# Altium footprint library Resistors.PcbLib: 65 footprints (part 2 of 5)
Each footprint in its own frame and in the unit in brackets; x right, y up, seen from the top. Pads: shape width x height; smd on the part's side, far side on the other; paste and mask are expansions set on the pad; w line width, h text height; cw(c..) or ccw(c..) is an arc to the next point about the centre after c.
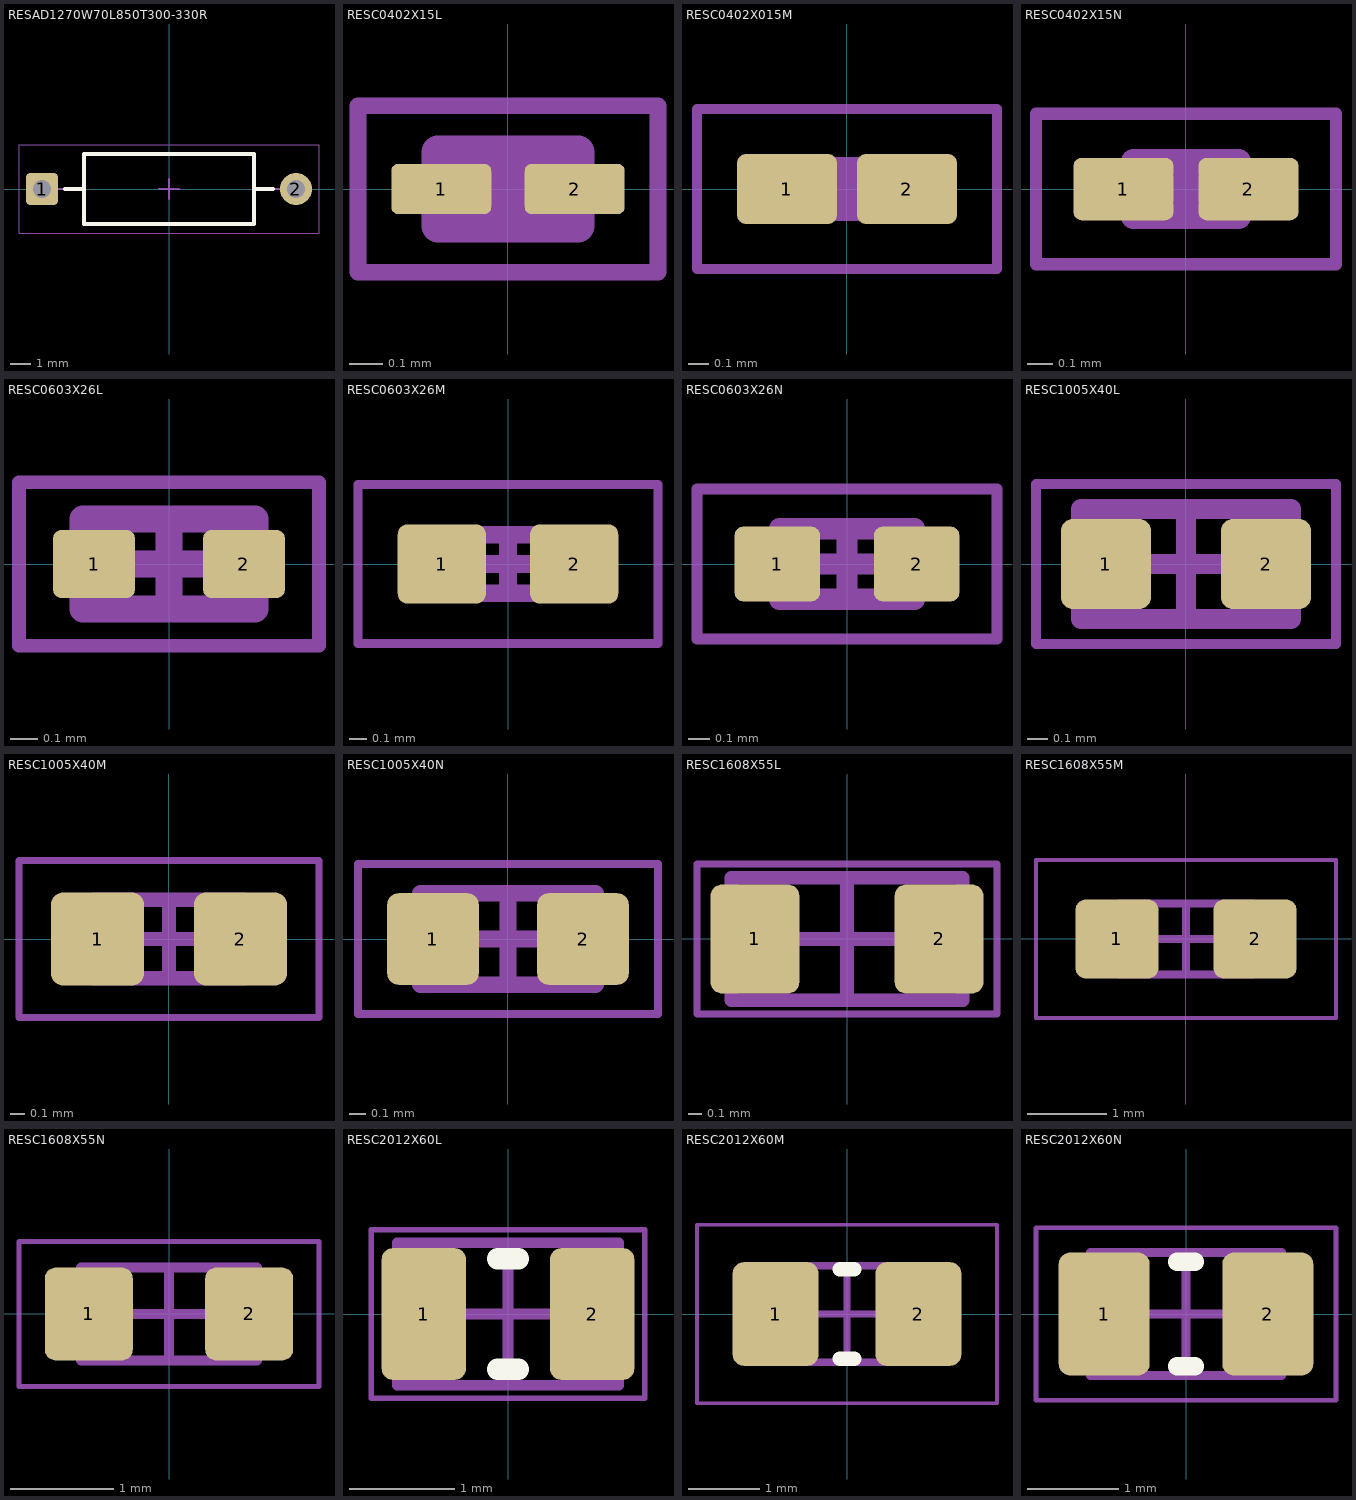
[diagram p1: the footprints below, top view; thin cyan lines are the x and y axes]

## RESAD1270W70L850T300-330R [mm] "Resistor, Axial Diameter; Lead Spacing 12.70mm, Lead Width 0.7mm, Body Length 8.50mm, Body Diameter 3mm - 330 Ohm"
height 3
pads (2):
  rrect25% 1.6x1.6 hole 0.9 paste-1000 mask+0.05: 1(-6.35,0)
  round 1.6 hole 0.9 paste-1000 mask+0.05: 2(6.35,0)
Top Overlay:
  lines w0.2: -5.2,0 -4.25,0 ; 4.25,0 5.2,0 ; -4.25,-1.75 4.25,-1.75 4.25,1.75 -4.25,1.75 -4.25,-1.75
Top Component Outline:
  lines w0.1: -4.25,-1.75 4.25,-1.75 4.25,1.75 -4.25,1.75 -4.25,-1.75
Top Courtyard:
  lines w0.05: -7.5,-2.2 -7.5,2.2 7.5,2.2 7.5,-2.2 -7.5,-2.2
Top Component Center:
  lines w0.1: -0.5,0 0.5,0 ; 0,-0.5 0,0.5
Top Designator:
  text ".Designator" at -4.04,-0.476 h2
Top Assembly:
  lines w0.1: -6.3,0 -4.25,0 ; 4.25,0 6.3,0 ; -4.25,-1.75 4.25,-1.75 4.25,1.75 -4.25,1.75 -4.25,-1.75
  text ".Designator" at -4.04,-0.476 h2
3D body "RESAD1270W70L850T300-330R.step": height 3.78, standoff -5.6, extent -6.725,-1.875 6.725,1.875

## RESC0402X15L [mm] "Chip Resistor, EIA 0100, Metric 0402, Body 0.40x0.20mm, IPC High Density"
height 0.15
pads (2):
  rrect25% 0.3x0.15 smd paste+0 mask+0.05: 1(-0.2,0) 2(0.2,0)
Top Component Outline:
  lines w0.1: -0.21,-0.11 -0.21,0.11 0.21,0.11 0.21,-0.11 -0.21,-0.11
Top Courtyard:
  lines w0.05: -0.45,-0.25 -0.45,0.25 0.45,0.25 0.45,-0.25 -0.45,-0.25
Top Component Center:
  lines w0.1: -0.11,0 0.11,0 ; 0,-0.11 0,0.11
Top Designator:
  text ".Designator" at -4.04,-0.476 h2
Top Assembly:
  lines w0.1: -0.21,-0.11 -0.21,0.11 0.21,0.11 0.21,-0.11 -0.21,-0.11
  text ".Designator" at -4.04,-0.476 h2
3D body "RESC0402X15.step": height 0.15, standoff 0, extent -0.21,-0.11 0.21,0.11

## RESC0402X015M [mm] "Chip Resistor, EIA 0100, Metric 0402, Body 0.40x0.20mm, IPC Low Density"
height 0.15
pads (2):
  rrect25% 0.5x0.35 smd paste+0 mask+0.05: 1(-0.3,0) 2(0.3,0)
Top Component Outline:
  lines w0.1: -0.21,-0.11 -0.21,0.11 0.21,0.11 0.21,-0.11 -0.21,-0.11
Top Courtyard:
  lines w0.05: -0.75,-0.4 0.75,-0.4 0.75,0.4 -0.75,0.4 -0.75,-0.4
Top Component Center:
  lines w0.1: -0.11,0 0.11,0 ; 0,-0.11 0,0.11
Top Designator:
  text ".Designator" at -4.04,-0.476 h2
Top Assembly:
  lines w0.1: -0.21,-0.11 -0.21,0.11 0.21,0.11 0.21,-0.11 -0.21,-0.11
  text ".Designator" at -4.04,-0.476 h2
3D body "RESC0402X15.step": height 0.15, standoff 0, extent -0.21,-0.11 0.21,0.11

## RESC0402X15N [mm] "Chip Resistor, EIA 0100, Metric 0402, Body 0.40x0.20mm, IPC Medium Density"
height 0.15
pads (2):
  rrect25% 0.4x0.25 smd paste+0 mask+0.05: 1(-0.25,0) 2(0.25,0)
Top Component Outline:
  lines w0.1: -0.21,-0.11 0.21,-0.11 0.21,0.11 -0.21,0.11 -0.21,-0.11
Top Courtyard:
  lines w0.05: -0.6,-0.3 0.6,-0.3 0.6,0.3 -0.6,0.3 -0.6,-0.3
Top Component Center:
  lines w0.1: -0.11,0 0.11,0 ; 0,-0.11 0,0.11
Top Designator:
  text ".Designator" at -4.04,-0.476 h2
Top Assembly:
  lines w0.1: -0.21,-0.11 0.21,-0.11 0.21,0.11 -0.21,0.11 -0.21,-0.11
  text ".Designator" at -4.04,-0.476 h2
3D body "RESC0402X15.step": height 0.15, standoff 0, extent -0.21,-0.11 0.21,0.11

## RESC0603X26L [mm] "Chip Resistor, EIA 0201, Metric 0603, Body 0.60x0.30mm, IPC High Density"
height 0.26
pads (2):
  rrect25% 0.3x0.25 smd paste+0 mask+0.05: 1(-0.275,0) 2(0.275,0)
Top Component Outline:
  lines w0.1: -0.315,-0.165 -0.315,0.165 0.315,0.165 0.315,-0.165 -0.315,-0.165
Top Courtyard:
  lines w0.05: -0.55,-0.3 0.55,-0.3 0.55,0.3 -0.55,0.3 -0.55,-0.3
Top Component Center:
  lines w0.1: -0.165,0 0.165,0 ; 0,-0.165 0,0.165
Top Designator:
  text ".Designator" at -4.04,-0.476 h2
Top Assembly:
  lines w0.1: -0.315,-0.165 0.315,-0.165 0.315,0.165 -0.315,0.165 -0.315,-0.165
  text ".Designator" at -4.04,-0.476 h2
3D body "RESC0603X26.step": height 0.26, standoff 0, extent -0.315,-0.165 0.315,0.165

## RESC0603X26M [mm] "Chip Resistor, EIA 0201, Metric 0603, Body 0.60x0.30mm, IPC Low Density"
height 0.26
pads (2):
  rrect25% 0.5x0.45 smd paste+0 mask+0.05: 1(-0.375,0) 2(0.375,0)
Top Component Outline:
  lines w0.1: -0.315,-0.165 -0.315,0.165 0.315,0.165 0.315,-0.165 -0.315,-0.165
Top Courtyard:
  lines w0.05: -0.85,-0.45 0.85,-0.45 0.85,0.45 -0.85,0.45 -0.85,-0.45
Top Component Center:
  lines w0.1: -0.165,0 0.165,0 ; 0,-0.165 0,0.165
Top Designator:
  text ".Designator" at -4.04,-0.476 h2
Top Assembly:
  lines w0.1: -0.315,-0.165 0.315,-0.165 0.315,0.165 -0.315,0.165 -0.315,-0.165
  text ".Designator" at -4.04,-0.476 h2
3D body "RESC0603X26.step": height 0.26, standoff 0, extent -0.315,-0.165 0.315,0.165

## RESC0603X26N [mm] "Chip Resistor, EIA 0201, Metric 0603, Body 0.60x0.30mm, IPC Medium Density"
height 0.26
pads (2):
  rrect25% 0.4x0.35 smd paste+0 mask+0.05: 1(-0.325,0) 2(0.325,0)
Top Component Outline:
  lines w0.1: -0.315,-0.165 -0.315,0.165 0.315,0.165 0.315,-0.165 -0.315,-0.165
Top Courtyard:
  lines w0.05: -0.7,-0.35 -0.7,0.35 0.7,0.35 0.7,-0.35 -0.7,-0.35
Top Component Center:
  lines w0.1: -0.165,0 0.165,0 ; 0,-0.165 0,0.165
Top Designator:
  text ".Designator" at -4.04,-0.476 h2
Top Assembly:
  lines w0.1: -0.315,-0.165 -0.315,0.165 0.315,0.165 0.315,-0.165 -0.315,-0.165
  text ".Designator" at -4.04,-0.476 h2
3D body "RESC0603X26.step": height 0.26, standoff 0, extent -0.315,-0.165 0.315,0.165

## RESC1005X40L [mm] "Chip Resistor, EIA 0402, Metric 1005, Body 1.00x0.50mm, IPC High Density"
height 0.4
pads (2):
  rrect25% 0.45x0.45 smd paste+0 mask+0.05: 1(-0.4,0) 2(0.4,0)
Top Component Outline:
  lines w0.1: -0.525,-0.275 -0.525,0.275 0.525,0.275 0.525,-0.275 -0.525,-0.275
Top Courtyard:
  lines w0.05: -0.75,-0.4 -0.75,0.4 0.75,0.4 0.75,-0.4 -0.75,-0.4
Top Component Center:
  lines w0.1: -0.275,0 0.275,0 ; 0,-0.275 0,0.275
Top Designator:
  text ".Designator" at -4.04,-0.476 h2
Top Assembly:
  lines w0.1: -0.525,-0.275 -0.525,0.275 0.525,0.275 0.525,-0.275 -0.525,-0.275
  text ".Designator" at -4.04,-0.476 h2
3D body "RESC1005X40.step": height 0.4, standoff 0, extent -0.525,-0.275 0.525,0.275

## RESC1005X40M [mm] "Chip Resistor, EIA 0402, Metric 1005, Body 1.00x0.50mm, IPC Low Density"
height 0.4
pads (2):
  rrect25% 0.65x0.65 smd paste+0 mask+0.05: 1(-0.5,0) 2(0.5,0)
Top Component Outline:
  lines w0.1: -0.525,-0.275 0.525,-0.275 0.525,0.275 -0.525,0.275 -0.525,-0.275
Top Courtyard:
  lines w0.05: -1.05,-0.55 1.05,-0.55 1.05,0.55 -1.05,0.55 -1.05,-0.55
Top Component Center:
  lines w0.1: -0.275,0 0.275,0 ; 0,-0.275 0,0.275
Top Designator:
  text ".Designator" at -4.04,-0.476 h2
Top Assembly:
  lines w0.1: -0.525,-0.275 0.525,-0.275 0.525,0.275 -0.525,0.275 -0.525,-0.275
  text ".Designator" at -4.04,-0.476 h2
3D body "RESC1005X40.step": height 0.4, standoff 0, extent -0.525,-0.275 0.525,0.275

## RESC1005X40N [mm] "Chip Resistor, EIA 0402, Metric 1005, Body 1.00x0.50mm, IPC Medium Density"
height 0.4
pads (2):
  rrect25% 0.55x0.55 smd paste+0 mask+0.05: 1(-0.45,0) 2(0.45,0)
Top Component Outline:
  lines w0.1: -0.525,-0.275 0.525,-0.275 0.525,0.275 -0.525,0.275 -0.525,-0.275
Top Courtyard:
  lines w0.05: -0.9,-0.45 0.9,-0.45 0.9,0.45 -0.9,0.45 -0.9,-0.45
Top Component Center:
  lines w0.1: -0.275,0 0.275,0 ; 0,-0.275 0,0.275
Top Designator:
  text ".Designator" at -4.04,-0.476 h2
Top Assembly:
  lines w0.1: -0.525,-0.275 0.525,-0.275 0.525,0.275 -0.525,0.275 -0.525,-0.275
  text ".Designator" at -4.04,-0.476 h2
3D body "RESC1005X40.step": height 0.4, standoff 0, extent -0.525,-0.275 0.525,0.275

## RESC1608X55L [mm] "Chip Resistor, EIA 0603, Metric 1608, Body 1.60x0.80mm, IPC High Density"
height 0.55
pads (2):
  rrect25% 0.65x0.8 smd paste+0 mask+0.05: 1(-0.675,0) 2(0.675,0)
Top Component Outline:
  lines w0.1: -0.85,-0.45 -0.85,0.45 0.85,0.45 0.85,-0.45 -0.85,-0.45
Top Courtyard:
  lines w0.05: -1.1,-0.55 -1.1,0.55 1.1,0.55 1.1,-0.55 -1.1,-0.55
Top Component Center:
  lines w0.1: -0.45,0 0.45,0 ; 0,-0.45 0,0.45
Top Designator:
  text ".Designator" at -4.04,-0.476 h2
Top Assembly:
  lines w0.1: -0.85,-0.45 -0.85,0.45 0.85,0.45 0.85,-0.45 -0.85,-0.45
  text ".Designator" at -4.04,-0.476 h2
3D body "RESC1608X55.step": height 0.55, standoff 0, extent -0.85,-0.45 0.85,0.45

## RESC1608X55M [mm] "Chip Resistor, EIA 0603, Metric 1608, Body 1.60x0.80mm, IPC Low Density"
height 0.55
pads (2):
  rrect25% 1.05x1 smd paste+0 mask+0.05: 1(-0.875,0) 2(0.875,0)
Top Component Outline:
  lines w0.1: -0.85,-0.45 -0.85,0.45 0.85,0.45 0.85,-0.45 -0.85,-0.45
Top Courtyard:
  lines w0.05: -1.9,-1 1.9,-1 1.9,1 -1.9,1 -1.9,-1
Top Component Center:
  lines w0.1: -0.45,0 0.45,0 ; 0,-0.45 0,0.45
Top Designator:
  text ".Designator" at -4.04,-0.476 h2
Top Assembly:
  lines w0.1: -0.85,-0.45 0.85,-0.45 0.85,0.45 -0.85,0.45 -0.85,-0.45
  text ".Designator" at -4.04,-0.476 h2
3D body "RESC1608X55.step": height 0.55, standoff 0, extent -0.85,-0.45 0.85,0.45

## RESC1608X55N [mm] "Chip Resistor, EIA 0603, Metric 1608, Body 1.60x0.80mm, IPC Medium Density"
height 0.55
pads (2):
  rrect25% 0.85x0.9 smd paste+0 mask+0.05: 1(-0.775,0) 2(0.775,0)
Top Component Outline:
  lines w0.1: -0.85,-0.45 -0.85,0.45 0.85,0.45 0.85,-0.45 -0.85,-0.45
Top Courtyard:
  lines w0.05: -1.45,-0.7 -1.45,0.7 1.45,0.7 1.45,-0.7 -1.45,-0.7
Top Component Center:
  lines w0.1: -0.45,0 0.45,0 ; 0,-0.45 0,0.45
Top Designator:
  text ".Designator" at -4.04,-0.476 h2
Top Assembly:
  lines w0.1: -0.85,-0.45 -0.85,0.45 0.85,0.45 0.85,-0.45 -0.85,-0.45
  text ".Designator" at -4.04,-0.476 h2
3D body "RESC1608X55.step": height 0.55, standoff 0, extent -0.85,-0.45 0.85,0.45

## RESC2012X60L [mm] "Chip Resistor, EIA 0805, Metric 2012, Body 2.00x1.25mm, IPC High Density"
height 0.6
pads (2):
  rrect25% 0.8x1.25 smd paste+0 mask+0.05: 1(-0.8,0) 2(0.8,0)
Top Overlay:
  lines w0.2: -0.1,-0.525 0.1,-0.525 ; -0.1,0.525 0.1,0.525
Top Component Outline:
  lines w0.1: -1.05,-0.675 1.05,-0.675 1.05,0.675 -1.05,0.675 -1.05,-0.675
Top Courtyard:
  lines w0.05: -1.3,-0.8 -1.3,0.8 1.3,0.8 1.3,-0.8 -1.3,-0.8
Top Component Center:
  lines w0.1: -0.5,0 0.5,0 ; 0,-0.5 0,0.5
Top Designator:
  text ".Designator" at -4.04,-0.476 h2
Top Assembly:
  lines w0.1: -1.05,-0.675 -1.05,0.675 1.05,0.675 1.05,-0.675 -1.05,-0.675
  text ".Designator" at -4.04,-0.476 h2
3D body "RESC2012X60.step": height 0.6, standoff 0, extent -1.05,-0.675 1.05,0.675

## RESC2012X60M [mm] "Chip Resistor, EIA 0805, Metric 2012, Body 2.00x1.25mm, IPC Low Density"
height 0.6
pads (2):
  rrect25% 1.2x1.45 smd paste+0 mask+0.05: 1(-1,0) 2(1,0)
Top Overlay:
  lines w0.2: -0.1,-0.625 0.1,-0.625 ; -0.1,0.625 0.1,0.625
Top Component Outline:
  lines w0.1: -1.05,-0.675 -1.05,0.675 1.05,0.675 1.05,-0.675 -1.05,-0.675
Top Courtyard:
  lines w0.05: -2.1,-1.25 2.1,-1.25 2.1,1.25 -2.1,1.25 -2.1,-1.25
Top Component Center:
  lines w0.1: -0.5,0 0.5,0 ; 0,-0.5 0,0.5
Top Designator:
  text ".Designator" at -4.04,-0.476 h2
Top Assembly:
  lines w0.1: -1.05,-0.675 1.05,-0.675 1.05,0.675 -1.05,0.675 -1.05,-0.675
  text ".Designator" at -4.04,-0.476 h2
3D body "RESC2012X60.step": height 0.6, standoff 0, extent -1.05,-0.675 1.05,0.675

## RESC2012X60N [mm] "Chip Resistor, EIA 0805, Metric 2012, Body 2.00x1.25mm, IPC Medium Density"
height 0.6
pads (2):
  rrect25% 1x1.35 smd paste+0 mask+0.05: 1(-0.9,0) 2(0.9,0)
Top Overlay:
  lines w0.2: -0.1,-0.575 0.1,-0.575 ; -0.1,0.575 0.1,0.575
Top Component Outline:
  lines w0.1: -1.05,-0.675 1.05,-0.675 1.05,0.675 -1.05,0.675 -1.05,-0.675
Top Courtyard:
  lines w0.05: -1.65,-0.95 1.65,-0.95 1.65,0.95 -1.65,0.95 -1.65,-0.95
Top Component Center:
  lines w0.1: -0.5,0 0.5,0 ; 0,-0.5 0,0.5
Top Designator:
  text ".Designator" at -4.04,-0.476 h2
Top Assembly:
  lines w0.1: -1.05,-0.675 1.05,-0.675 1.05,0.675 -1.05,0.675 -1.05,-0.675
  text ".Designator" at -4.04,-0.476 h2
3D body "RESC2012X60.step": height 0.6, standoff 0, extent -1.05,-0.675 1.05,0.675